# Altium footprint library TO220 With wakefield thermal.PcbLib: 1 footprints
Each footprint in its own frame and in the unit in brackets; x right, y up, seen from the top. Pads: shape width x height; smd on the part's side, far side on the other; paste and mask are expansions set on the pad; w line width, h text height; cw(c..) or ccw(c..) is an arc to the next point about the centre after c.
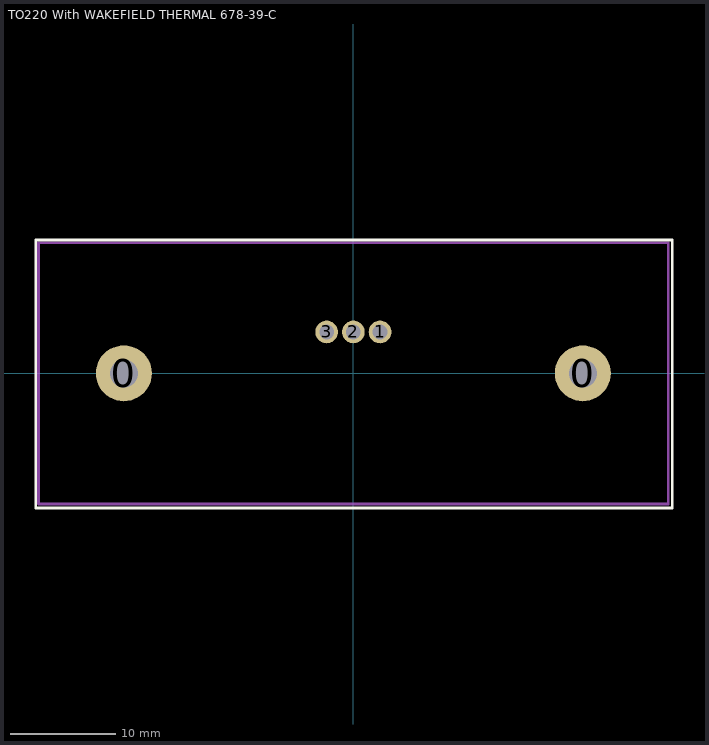
[diagram p0: the footprint, top view; thin cyan lines are the x and y axes]

## TO220 With WAKEFIELD THERMAL 678-39-C [mil]
height 1520
pads (5):
  round 210 hole 105: 0(-860,0) 0(860,0)
  round 85 hole 55: 1(100,155) 2(0,155) 3(-100,155)
Top Overlay:
  lines w10: -1190,-505 1195,-505 1195,500 -1190,500 -1190,-505
  text ".Designator" at 130,430.01 h60
Mechanical 1:
  lines w10: -1180,-490 1180,-490 1180,490 -1180,490 -1180,-490
Top Assembly:
  text ".Comment" at 106.73,158.78 h39.37
Multi-Layer:
  pour cut-out: 1180,-490 1180,-250 650,-250 470,-70 150,-70 150,-490
  pour cut-out: -1180,490 -1180,240 -800,240 -800,490
  pour cut-out: 800,490 800,240 1180,240 1180,490
  pour cut-out: -1180,-490 -1180,-250 -650,-250 -470,-70 -150,-70 -150,-490
3D body: height 1520, standoff 0, extent -1180,-490 1180,490